# EAGLE library part ISP-6_PIN (library p.peter-connectors)
AVR 6 PIN ISP header Edge connector normal layout
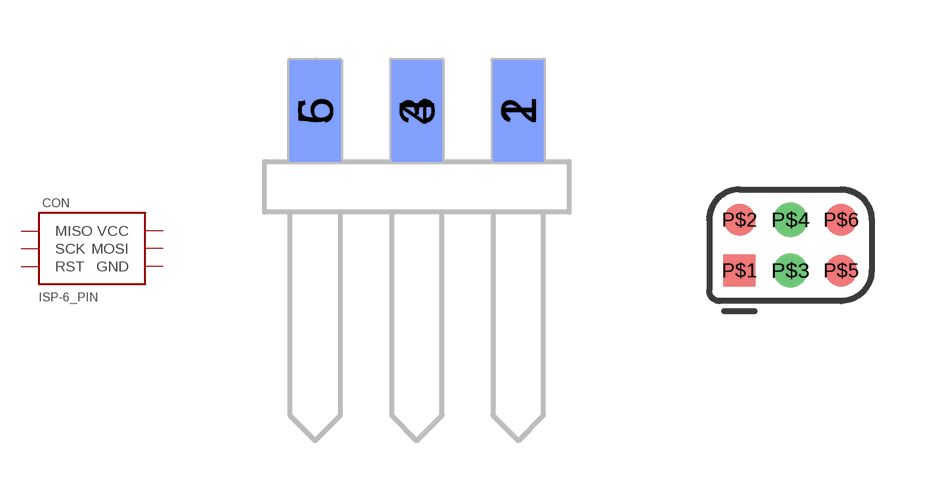
[diagram p0: symbol with the pads of EDGE-6_PIN; footprints EDGE-6_PIN, POGO-1.27-6_PIN-MADWORM]

Designator prefix CON

## ISP-6_PINEDGE-INVERTED  [EDGE-6_PIN]
1  VCC  pwr
2  MISO
3  MOSI
4  SCK
5  GND  pwr
6  RST

## ISP-6_PINEDGE-NORM  [EDGE-6_PIN]
1  MISO
2  VCC  pwr
3  SCK
4  MOSI
5  RST
6  GND  pwr

## ISP-6_PIN-POGO  [POGO-1.27-6_PIN-MADWORM]
P$1  MISO
P$2  VCC  pwr
P$3  SCK
P$4  MOSI
P$5  RST
P$6  GND  pwr

## ISP-6_PIN-NORMAL  [PINHEADER-100-MIL-2X6-ISP]
P$1  MISO
P$2  SCK
P$3  RST
P$4  GND  pwr
P$5  MOSI
P$6  VCC  pwr

## Footprint EDGE-6_PIN (pad centres in mm)
smd 1.27 x 2.54: 1 2.54,0; 3 0,0; 5 -2.54,0
smd 1.27 x 2.54 bottom: 2 2.54,0; 4 0,0; 6 -2.54,0

## Footprint POGO-1.27-6_PIN-MADWORM (pad centres in mm)
smd 0.8 x 0.8: P$1 -1.27,-0.635; P$2 -1.27,0.635; P$5 1.27,-0.635; P$6 1.27,0.635
drill 0.35: P$3 0,-0.635; P$4 0,0.635

## Footprint PINHEADER-100-MIL-2X6-ISP (pad centres in mm)
drill 1 square: P$1 -2.54,-1.27
drill 1: P$2 0,-1.27; P$3 2.54,-1.27; P$4 2.54,1.27; P$5 0,1.27; P$6 -2.54,1.27